# EAGLE library part TC74HC595AF(EL,F) (library TC74HC595AF_EL_F_)
Check availability <https://pricing.snapeda.com/parts/TC74HC595AF%28EL%2CF%29/Toshiba%20Semiconductor/view-part?ref=eda>
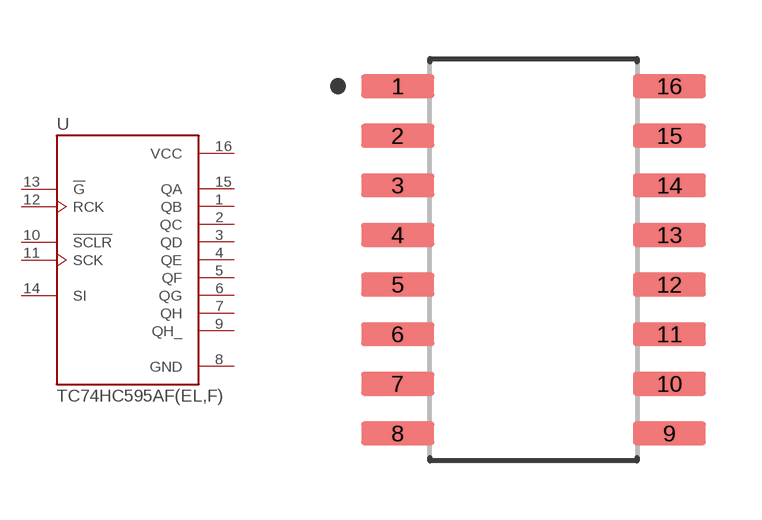
[diagram p0: symbol with the pads of SOIC127P780X190-16N; footprint SOIC127P780X190-16N]

Designator prefix U

## TC74HC595AF(EL,F) (Availability: In Stock; Check_prices: https://www.snapeda.com/parts/TC74HC595AF(EL,F)/Toshiba+Semiconductor+and+Storage/view-part/?ref=eda; Description: Shift Shift Register 1 Element 8 Bit 16-SOP; MF: Toshiba Semiconductor; MP: TC74HC595AF(EL,F); Package: SOP-16 Toshiba; Price: None; Purchase-URL: https://www.snapeda.com/api/url_track_click_mouser/?unipart_id=1140723&manufacturer=Toshiba Semiconductor&part_name=TC74HC595AF(EL,F)&search_term=None; SnapEDA_Link: https://www.snapeda.com/parts/TC74HC595AF(EL,F)/Toshiba+Semiconductor+and+Storage/view-part/?ref=snap)  [SOIC127P780X190-16N]
1  QB  out
2  QC  out
3  QD  out
4  QE  out
5  QF  out
6  QG  out
7  QH  out
8  GND  pwr
9  QH_  out
10  !SCLR
11  SCK  in
12  RCK  in
13  !G  in
14  SI  in
15  QA  out
16  VCC  pwr

## Footprint SOIC127P780X190-16N (pad centres in mm)
smd 1.87 x 0.61: 1 -3.475,4.445; 2 -3.475,3.175; 3 -3.475,1.905; 4 -3.475,0.635; 5 -3.475,-0.635; 6 -3.475,-1.905; 7 -3.475,-3.175; 8 -3.475,-4.445; 9 3.475,-4.445; 10 3.475,-3.175; 11 3.475,-1.905; 12 3.475,-0.635; 13 3.475,0.635; 14 3.475,1.905; 15 3.475,3.175; 16 3.475,4.445